# Altium schematic symbol library vestibular_vampire.SchLib: 129 symbols (part 3 of 5)
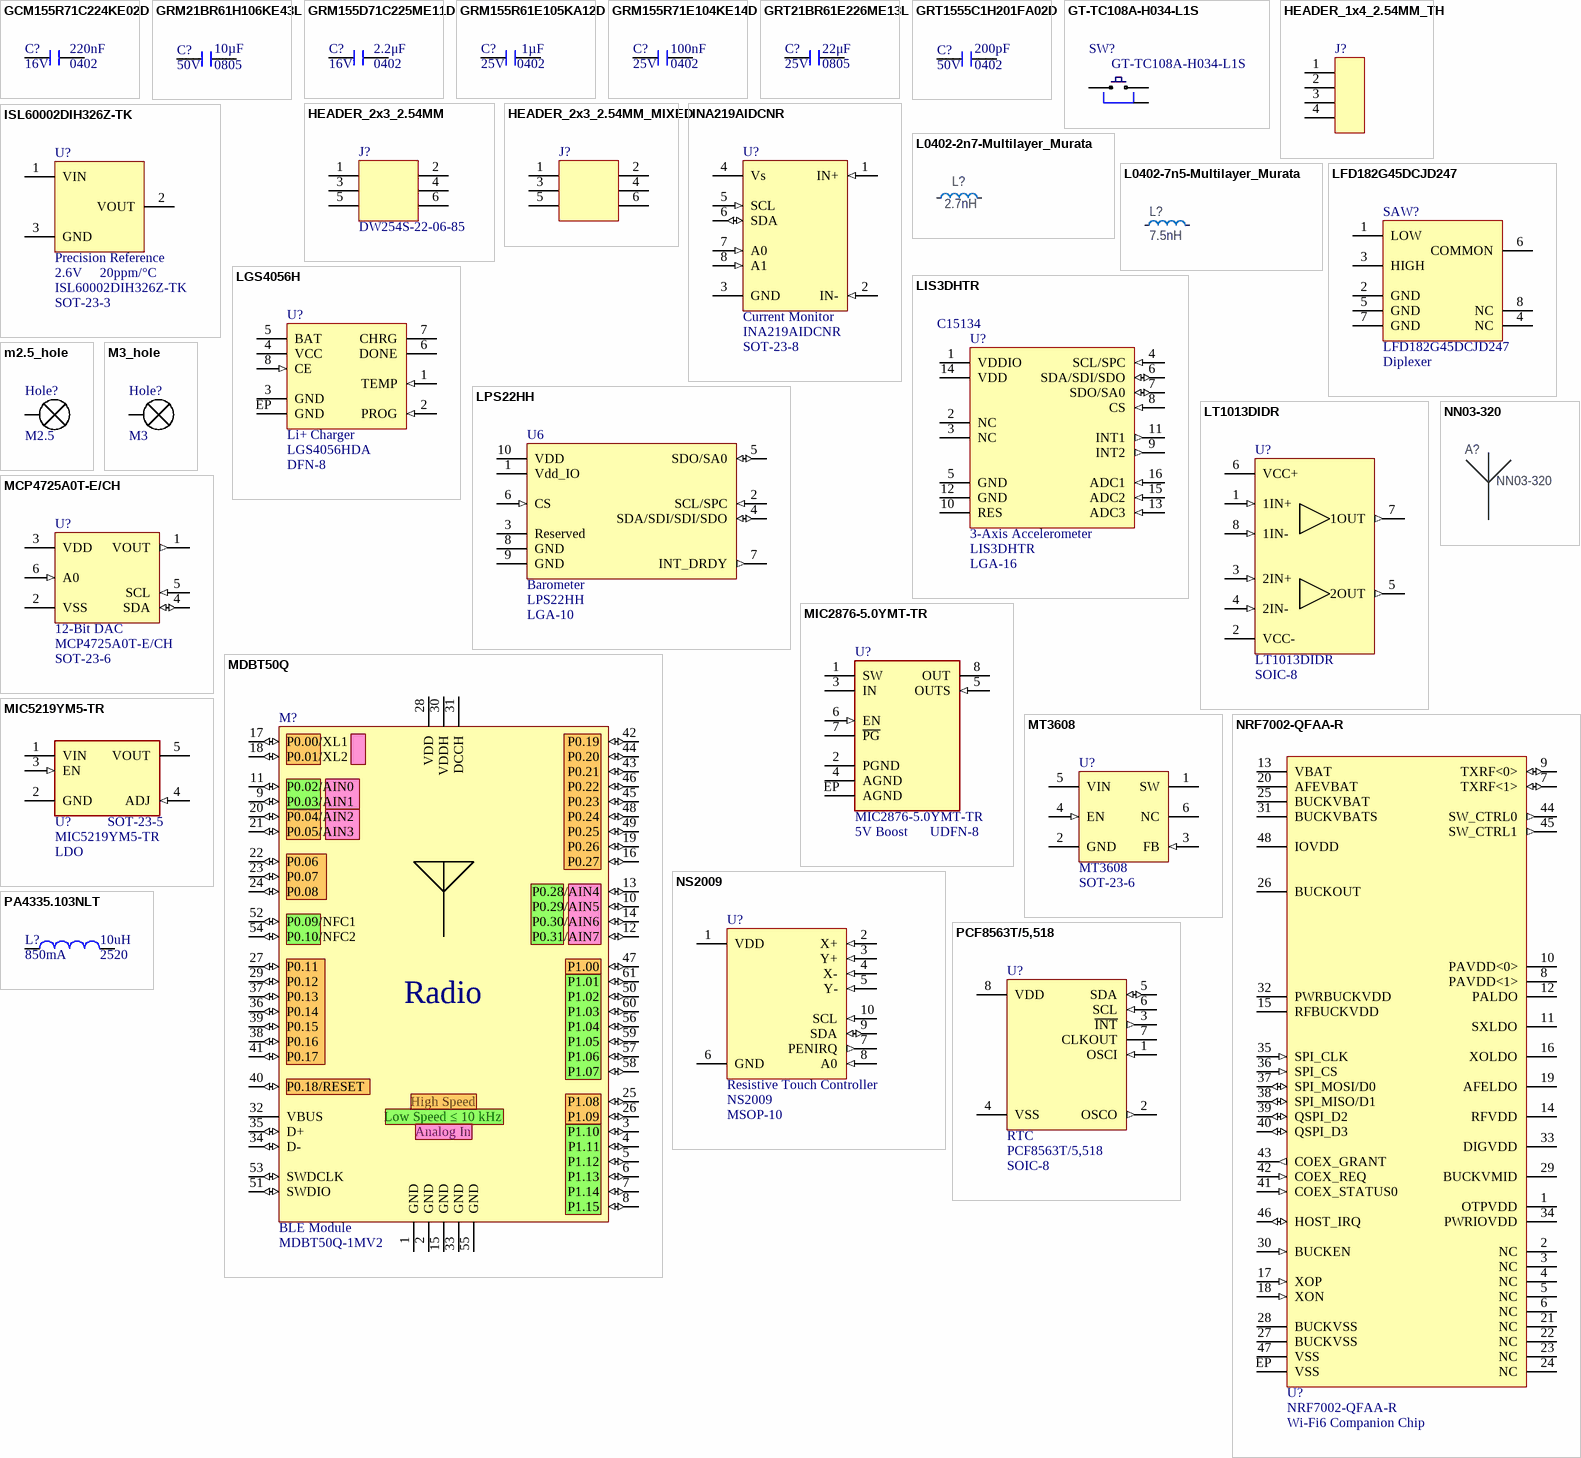
[diagram p5: symbols GCM155R71C224KE02D to PCF8563T/5,518]

## LT1013DIDR
designator U?  Manufacturer Part Number: LT1013DIDR  Case/Package: SOIC-8  (hidden comment: *)
Op-Amp, 5-44 V, SOIC-8; Manufacturer: Texas Instruments; Manufacturer Lifecycle Status: ACTIVE; Bandwidth: 1MHz; Common Mode Rejection Ratio: 97dB; Input Bias Current: -15nA; Input Offset Voltage (Vos): 200µV; Max Dual Supply Voltage: 22V; Max Junction Temperature (Tj): 150°C; Max Supply Voltage: 30V; Min Dual Supply Voltage: 2V; Min Supply Voltage: 5V; Nominal Supply Current: 350µA; Number of Amplifiers: 2; Output Current per Channel: 25mA; Slew Rate: 0.4V/µs; Voltage Gain: 120dB; Supplier 1: LCSC; RoHS: Compliant; Category: Amplifiers - Op Amps, Buffer, Instrumentation; Stock 1: 2755; Pricing 1: 1=10.5871, 1=1.2745, 1=11.5575, 1=1.4483, 10=8.8042, 10=1.0599, 10=9.6112, 10=1.2044, 30=7.8217, 30=0.9416, 30=8.5386, 30=1.07, 100=6.7048, 100=0.8072, 100=7.3193, 100=0.9172, 500=6.2077, 500=0.7473, 500=6.7767, 500=0.8492, 1000=5.9935, 1000=0.7216, 1000=6.5428, 1000=0.8199 (CNY); Ambient Temperature Range High: 105°C; Contact Plating: Gold; Gain Bandwidth Product: 1MHz; Height: 1.75mm; Lead Free: Lead Free; Length: 4.9mm; Lifecycle Status: Production; Max Operating Temperature: 105°C; Min Operating Temperature: -40°C; Mounting Technology: Surface Mount; Number of Channels: 2; Number of Circuits: 2; Number of Elements: 2; Pins: 8; Operating Supply Current: 350µA; Operating Supply Voltage: 22V; Packaging: Cut Tape; Radiation Hardening: No; REACH SVHC: No; Schedule B: 8542330000, 8542330000|8542330000|8542330000|8542330000|8542330000; Thickness: 1.58mm; Width: 3.91mm; ComponentLink1URL: https://octopart.com:443/opatz8j6/c1?t=M0cShFGUicegvLtuJ8-zs80pXCwKzPiMDfXh6-JTafKhOGkvmMbrbDOg59FWK180Hgcjh15YrgijTlzM1MQuPq40am12GMlhmTgFy1qRP_KCXoXJDs106NH1KBLm8tXuipKWnQXtF43MTIKlBHKkohhW4hOkcw2aK72GO3jP4nGAq-PKP9ZyrZWAbdm3b52rhLG0hkAVfGKswW3joJ7vh5DhYPJWbTvPhAbR8fO8VPXhxLQM_jY_VT1wzAmnyheMOpOCMWHZ9EDcKaKFaiylEQig-uIOmFPvjOgFNBLduZO8eK__Uds4HhdSl55DCMz9u54MsLGNxZV-EWbAqBfnwHirGA5M-fHWLMAxe_jbIe9TaaBizE_qMUTQwbY40qDj2r7m&src-supplier=Texas+Instruments; ComponentLink1Description: https://octopart.com:443/opatz8j6/c1?t=M0cShFGUicegvLtuJ8-zs80pXCwKzPiMDfXh6-JTafKhOGkvmMbrbDOg59FWK180Hgcjh15YrgijTlzM1MQuPq40am12GMlhmTgFy1qRP_KCXoXJDs106NH1KBLm8tXuipKWnQXtF43MTIKlBHKkohhW4hOkcw2aK72GO3jP4nGAq-PKP9ZyrZWAbdm3b52rhLG0hkAVfGKswW3joJ7vh5DhYPJWbTvPhAbR8fO8VPXhxLQM_jY_VT1wzAmnyheMOpOCMWHZ9EDcKaKFaiylEQig-uIOmFPvjOgFNBLduZO8eK__Uds4HhdSl55DCMz9u54MsLGNxZV-EWbAqBfnwHirGA5M-fHWLMAxe_jbIe9TaaBizE_qMUTQwbY40qDj2r7m&src-supplier=Texas+Instruments; ComponentLink2URL: https://datasheet.octopart.com:443/LT1013DIDR-Texas-Instruments-datasheet-41214033.pdf?src-supplier=Texas+Instruments; ComponentLink2Description: https://datasheet.octopart.com:443/LT1013DIDR-Texas-Instruments-datasheet-41214033.pdf?src-supplier=Texas+Instruments; ComponentLink3URL: https://datasheet.octopart.com:443/LT1013DIDR-Texas-Instruments-datasheet-10254874.pdf?src-supplier=Texas+Instruments; ComponentLink3Description: https://datasheet.octopart.com:443/LT1013DIDR-Texas-Instruments-datasheet-10254874.pdf?src-supplier=Texas+Instruments; ComponentLink4URL: https://sigma.octopart.com:443/49249642/technical_drawing/Texas-Instruments-LT1013DIDR.pdf?src-supplier=Texas+Instruments; ComponentLink4Description: https://sigma.octopart.com:443/49249642/technical_drawing/Texas-Instruments-LT1013DIDR.pdf?src-supplier=Texas+Instruments; ComponentLink5URL: https://datasheet.octopart.com:443/LT1013DIDR-Texas-Instruments-datasheet-10254053.pdf?src-supplier=Texas+Instruments; ComponentLink5Description: https://datasheet.octopart.com:443/LT1013DIDR-Texas-Instruments-datasheet-10254053.pdf?src-supplier=Texas+Instruments; ComponentLink6URL: https://datasheet.octopart.com:443/LT1013DIDR-Texas-Instruments-datasheet-148846.pdf?src-supplier=Texas+Instruments; ComponentLink6Description: https://datasheet.octopart.com:443/LT1013DIDR-Texas-Instruments-datasheet-148846.pdf?src-supplier=Texas+Instruments; ComponentLink7URL: https://datasheet.octopart.com:443/LT1013DIDR-Texas-Instruments-datasheet-151281.pdf?src-supplier=Texas+Instruments; ComponentLink7Description: https://datasheet.octopart.com:443/LT1013DIDR-Texas-Instruments-datasheet-151281.pdf?src-supplier=Texas+Instruments; ComponentLink8URL: https://datasheet.octopart.com:443/LT1013DIDR-Texas-Instruments-datasheet-148794836.pdf?src-supplier=Upverter; ComponentLink8Description: https://datasheet.octopart.com:443/LT1013DIDR-Texas-Instruments-datasheet-148794836.pdf?src-supplier=Upverter; ComponentLink9URL: https://datasheet.octopart.com:443/LT1013DIDR-Texas-Instruments-datasheet-82285550.pdf?src-supplier=element14+APAC; ComponentLink9Description: https://datasheet.octopart.com:443/LT1013DIDR-Texas-Instruments-datasheet-82285550.pdf?src-supplier=element14+APAC; ComponentLink10URL: https://datasheet.octopart.com:443/LT1013DIDR.-Texas-Instruments-datasheet-33010526.pdf?src-supplier=element14+APAC; ComponentLink10Description: https://datasheet.octopart.com:443/LT1013DIDR.-Texas-Instruments-datasheet-33010526.pdf?src-supplier=element14+APAC; ComponentLink11URL: https://datasheet.octopart.com:443/LT1013DIDR-Texas-Instruments-datasheet-20866108.pdf?src-supplier=Newark; ComponentLink11Description: https://datasheet.octopart.com:443/LT1013DIDR-Texas-Instruments-datasheet-20866108.pdf?src-supplier=Newark; ComponentLink12URL: https://datasheet.octopart.com:443/LT1013DIDR-Texas-Instruments-datasheet-11521414.pdf?src-supplier=Newark; ComponentLink12Description: https://datasheet.octopart.com:443/LT1013DIDR-Texas-Instruments-datasheet-11521414.pdf?src-supplier=Newark; ComponentLink13URL: https://datasheet.octopart.com:443/LT1013DIDR-Texas-Instruments-datasheet-14138854.pdf?src-supplier=iiiC; ComponentLink13Description: https://datasheet.octopart.com:443/LT1013DIDR-Texas-Instruments-datasheet-14138854.pdf?src-supplier=iiiC; ComponentLink14URL: https://datasheet.octopart.com:443/LT1013DIDR-Texas-Instruments-datasheet-14436488.pdf?src-supplier=Factory+Futures; ComponentLink14Description: https://datasheet.octopart.com:443/LT1013DIDR-Texas-Instruments-datasheet-14436488.pdf?src-supplier=Factory+Futures; ComponentLink15URL: https://datasheet.octopart.com:443/LT1013DIDR-Texas-Instruments-datasheet-8205012.pdf?src-supplier=Jameco; ComponentLink15Description: https://datasheet.octopart.com:443/LT1013DIDR-Texas-Instruments-datasheet-8205012.pdf?src-supplier=Jameco; ComponentLink16URL: https://datasheet.octopart.com:443/LT1013DIDR-Texas-Instruments-datasheet-9056.pdf?src-supplier=DigiKey; ComponentLink16Description: https://datasheet.octopart.com:443/LT1013DIDR-Texas-Instruments-datasheet-9056.pdf?src-supplier=DigiKey; ComponentLink17URL: http://sigma.octopart.com:80/conflict_mineral_statement/Texas-Instruments-company-63.pdf?src-supplier=Compliance+Statements; ComponentLink17Description: http://sigma.octopart.com:80/conflict_mineral_statement/Texas-Instruments-company-63.pdf?src-supplier=Compliance+Statements; ComponentLink18URL: http://sigma.octopart.com:80/reach_statement/Texas-Instruments-company-64.pdf?src-supplier=Compliance+Statements; ComponentLink18Description: http://sigma.octopart.com:80/reach_statement/Texas-Instruments-company-64.pdf?src-supplier=Compliance+Statements; Supplier Part Number 1: C177140
footprint SOIC127P600X175-8N
pins: 1 1IN+ (in), 2 VCC- (power), 3 2IN+ (in), 4 2IN- (in), 5 2OUT (out), 6 VCC+ (power), 7 1OUT (out), 8 1IN- (in)

## m2.5_hole
designator Hole?, comment M2.5  (no BOM)
M2.5 clearance hole
footprint m2.5_hole (M2.5 hole, with via stitching)
pins: 1

## M3_hole
designator Hole?, comment M3  (no BOM)
M3 clearance hole
footprint m3_hole (M3 hole, with via stitching)
pins: 1

## MCP4725A0T-E/CH
designator U?, comment 12-Bit DAC  Case/Package: SOT-23-6  Manufacturer Part Number: MCP4725A0T-E/CH
DAC, 12-bit, SOT-23-6; Manufacturer: Microchip; Manufacturer Package Identifier: C04-028-CHY; Description: DAC 1-CH Resistor-String 12-bit 6-Pin SOT-23 T/R Automotive AEC-Q100; Input Offset Voltage (Vos): 1.1mV; Integral Nonlinearity (INL): 14.5LSB; Interface: I2C; Max Junction Temperature (Tj): 150°C; Max Supply Voltage: 5.5V; Min Supply Voltage: 2.7V; Nominal Supply Current: 210µA; Number of Bits: 12; Number of Channels: 1; Output Type: Voltage; Polarity: Unipolar; Resolution: 1.5B; Settling Time: 6µs; Supply Type: Single; Supplier 1: LCSC; RoHS: Compliant; Category: Digital to Analog Converters (DACs); Stock 1: 11398; Pricing 1: 1=6.7252, 1=0.8004, 1=7.3416, 1=0.92, 10=5.9073, 10=0.7031, 10=6.4487, 10=0.8081, 30=5.1339, 30=0.611, 30=5.6044, 30=0.7023, 100=4.5622, 100=0.543, 100=4.9804, 100=0.6241, 500=4.3268, 500=0.515, 500=4.7234, 500=0.5919, 1000=4.2033, 1000=0.5003, 1000=4.5885, 1000=0.575 (CNY); Projected EOL Date: 2034-10-26; Ambient Temperature Range High: 125°C; Contact Plating: Tin; Country of Assembly: Thailand; Country of Fabrication: United States of America; Country of Origin: Thailand; Export Control Classification Number (ECCN) Code: EAR99; Height: 1.45mm; Harmonized Tariff Schedule (HTS) Code: 8542.39.0040; Introduction Date: 2007-10-26; Lead Free: Lead Free; Length: 3.1mm; Lifecycle Status: Production; Max Operating Temperature: 125°C; Min Operating Temperature: -40°C; Mounting Technology: Surface Mount; Number of Converters: 1; Number of D/A Converters: 1; Number of DAC Channels: 1; Number of Outputs: 1; Pins: 6; Packaging: Cut Tape; Radiation Hardening: No; REACH SVHC: No; Schedule B: 8542390000, 8542390000|8542390000|8542390000|8542390000|8542390000; Termination: SMD/SMT; Width: 1.8mm; ComponentLink1URL: https://datasheet.octopart.com:443/MCP4725A0T-E/CH-Microchip-datasheet-11052695.pdf?src-supplier=SHENGYU+ELECTRONICS; ComponentLink1Description: https://datasheet.octopart.com:443/MCP4725A0T-E/CH-Microchip-datasheet-11052695.pdf?src-supplier=SHENGYU+ELECTRONICS; ComponentLink2URL: https://datasheet.octopart.com:443/MCP4725A0T-E/CH-Microchip-datasheet-660622.pdf?src-supplier=Electro+Sonic; ComponentLink2Description: https://datasheet.octopart.com:443/MCP4725A0T-E/CH-Microchip-datasheet-660622.pdf?src-supplier=Electro+Sonic; ComponentLink3URL: https://datasheet.octopart.com:443/MCP4725A0T-E-CH-Microchip-datasheet-175858725.pdf?src-supplier=Microchip; ComponentLink3Description: https://datasheet.octopart.com:443/MCP4725A0T-E-CH-Microchip-datasheet-175858725.pdf?src-supplier=Microchip; ComponentLink4URL: https://datasheet.octopart.com:443/MCP4725A0T-E-CH-Microchip-datasheet-140568178.pdf?src-supplier=Arrow.cn; ComponentLink4Description: https://datasheet.octopart.com:443/MCP4725A0T-E-CH-Microchip-datasheet-140568178.pdf?src-supplier=Arrow.cn; ComponentLink5URL: https://datasheet.octopart.com:443/MCP4725A0T-E-CH-Microchip-datasheet-166018867.pdf?src-supplier=Augswan; ComponentLink5Description: https://datasheet.octopart.com:443/MCP4725A0T-E-CH-Microchip-datasheet-166018867.pdf?src-supplier=Augswan; ComponentLink6URL: http://sigma.octopart.com:80/188449425/materials_sheet/Microchip-MCP4725A0T-E-CH.pdf?src-supplier=Compliance+Statements; ComponentLink6Description: http://sigma.octopart.com:80/188449425/materials_sheet/Microchip-MCP4725A0T-E-CH.pdf?src-supplier=Compliance+Statements; ComponentLink7URL: http://sigma.octopart.com:80/conflict_mineral_statement/Microchip-company-68.pdf?src-supplier=Compliance+Statements; ComponentLink7Description: http://sigma.octopart.com:80/conflict_mineral_statement/Microchip-company-68.pdf?src-supplier=Compliance+Statements; ComponentLink8URL: http://sigma.octopart.com:80/conflict_mineral_statement/Microchip-company-69.pdf?src-supplier=Compliance+Statements; ComponentLink8Description: http://sigma.octopart.com:80/conflict_mineral_statement/Microchip-company-69.pdf?src-supplier=Compliance+Statements; ComponentLink9URL: http://sigma.octopart.com:80/reach_statement/Microchip-company-70.pdf?src-supplier=Compliance+Statements; ComponentLink9Description: http://sigma.octopart.com:80/reach_statement/Microchip-company-70.pdf?src-supplier=Compliance+Statements; ComponentLink10URL: http://sigma.octopart.com:80/rohs_statement/Microchip-company-71.pdf?src-supplier=Compliance+Statements; ComponentLink10Description: http://sigma.octopart.com:80/rohs_statement/Microchip-company-71.pdf?src-supplier=Compliance+Statements; Supplier Part Number 1: C144198
footprint SOT95P280X110-6N (SOT23, 6-Leads, Body 2,90x2,80mm, Pitch 0,95mm, IPC Medium Density)
pins: 1 VOUT (out) "Analog Output Voltage", 2 VSS (power) "Ground Reference", 3 VDD (power) "Supply Voltage", 4 SDA (io) "I2C Serial Data", 5 SCL (in) "I2C Serial Clock Input", 6 A0 (in) "I2C Address Bit Selection pin (A0 bit). This pin can be tied to VSS or VDD, or can be actively driven by the digital logic levels."

## MDBT50Q
designator M?, comment BLE Module  Manufacturer Part Number: MDBT50Q-1MV2
Supplier 1: Digi-Key; Supplier Part Number 1: 1597-1678-ND; ComponentLink1Description: Manufacturer Website; ComponentLink1URL: https://www.raytac.com/product/ins.php?index_id=24; house_part_number: MDBT50Q-1MV2
footprint MDBT50Q
pins: 1 GND (power), 2 GND (power), 3 P1.10 (io), 4 P1.11 (io), 5 P1.12 (io), 6 P1.13 (io), 7 P1.14 (io), 8 P1.15 (io), 9 P0.03/AIN1 (io), 10 P0.29/AIN5 (io), 11 P0.02/AIN0 (io), 12 P0.31/AIN7 (io), 13 P0.28/AIN4 (io), 14 P0.30/AIN6 (io), 15 GND (power), 16 P0.27 (io), 17 P0.00/XL1 (io), 18 P0.01/XL2 (io), 19 P0.26 (io), 20 P0.04/AIN2 (io), 21 P0.05/AIN3 (io), 22 P0.06 (io), 23 P0.07 (io), 24 P0.08 (io), 25 P1.08 (io), 26 P1.09 (io), 27 P0.11 (io), 28 VDD (power), 29 P0.12 (io), 30 VDDH (power), 31 DCCH (power), 32 VBUS (power), 33 GND (power), 34 D- (io), 35 D+ (io), 36 P0.14 (io), 37 P0.13 (io), 38 P0.16 (io), 39 P0.15 (io), 40 P0.18/RESET (io), 41 P0.17 (io), 42 P0.19 (io), 43 P0.21 (io), 44 P0.20 (io), 45 P0.23 (io), 46 P0.22 (io), 47 P1.00 (io), 48 P0.24 (io), 49 P0.25 (io), 50 P1.02 (io), 51 SWDIO (io), 52 P0.09/NFC1 (io), 53 SWDCLK (io), 54 P0.10/NFC2 (io), 55 GND (power), 56 P1.04 (io), 57 P1.06 (io), 58 P1.07 (io), 59 P1.05 (io), 60 P1.03 (io), 61 P1.01 (io)
text: Radio; High Speed; Low Speed ≤ 10 kHz; Analog In

## MIC2876-5.0YMT-TR
designator U?, comment 5V Boost  Case/Package: UDFN-8  Manufacturer Part Number: MIC2876-5.0YMT-TR
5V Synchronous Boost, UDFN-8; Manufacturer: Microchip; Number of Outputs: 1; Min Input Voltage: 2.5V; Max Supply Voltage: 5.5V; Output Current: 3.8A; Switching Frequency: 2MHz; Synchronous Rectifier: No; Output Type: Fixed; Output Configuration: Positive; Supplier: Digikey; Supplier Part Number: 150-MIC2876-5.0YMT-TRCT-ND; RoHS: Yes; Category: Voltage Regulators - Switching; Stock: 6514; Pricing: 1=0.97, 25=0.8, 100=0.73, 5000=0.73 (USD); Mounting Technology: Surface Mount; Min Operating Temperature: -40°C; Max Operating Temperature: 125°C; Packaging: Tape and Reel; Min Output Voltage: 5V; Topology: Boost; Series: -; RoHS Compliant: Yes; ComponentLink1URL: http://www.microchip.com/mymicrochip/filehandler.aspx?ddocname=en580787&src-supplier=Digikey; ComponentLink1Description: http://www.microchip.com/mymicrochip/filehandler.aspx?ddocname=en580787&src-supplier=Digikey; ComponentLink2URL: https://datasheet.octopart.com/MIC2876-5.0YMT-TR-Microchip-datasheet-175858781.pdf?src-supplier=Electro+Sonic; ComponentLink2Description: https://datasheet.octopart.com/MIC2876-5.0YMT-TR-Microchip-datasheet-175858781.pdf?src-supplier=Electro+Sonic; ComponentLink3URL: https://datasheet.octopart.com/MIC2876-5.0YMT-TR-Microchip-datasheet-175858781.pdf?src-supplier=microchipDIRECT; ComponentLink3Description: https://datasheet.octopart.com/MIC2876-5.0YMT-TR-Microchip-datasheet-175858781.pdf?src-supplier=microchipDIRECT; ComponentLink4URL: https://datasheet.octopart.com/MIC2876-5.0YMT-TR-Microchip-datasheet-175858781.pdf?src-supplier=Master+Electronics; ComponentLink4Description: https://datasheet.octopart.com/MIC2876-5.0YMT-TR-Microchip-datasheet-175858781.pdf?src-supplier=Master+Electronics; ComponentLink5URL: https://datasheet.octopart.com/MIC2876-5.0YMT-TR-Microchip-datasheet-86810323.pdf?src-supplier=SHENGYU+ELECTRONICS; ComponentLink5Description: https://datasheet.octopart.com/MIC2876-5.0YMT-TR-Microchip-datasheet-86810323.pdf?src-supplier=SHENGYU+ELECTRONICS; ComponentLink6URL: https://datasheet.octopart.com/MIC2876-5.0YMT-TR-Microchip-datasheet-142675560.pdf?src-supplier=TME; ComponentLink6Description: https://datasheet.octopart.com/MIC2876-5.0YMT-TR-Microchip-datasheet-142675560.pdf?src-supplier=TME
footprint SON50P200X50_HS-9N (SON, 8-Leads, Body 2.00x2.00mm, Pitch 0.50mm, Thermal Pad 1.20x0.60mm, IPC Medium Density)
pins: 1 SW (power) "Supply Input", 2 PGND (power) "Ground", 3 IN (power) "Supply Input", 4 AGND (power) "Ground", 5 OUTS (in) "Adjust (Input): Feedback input. Connect to resistive voltage-divider network.", 6 EN (in) "Enable (Input): CMOS compatible control input. Logic high = enable; logic", 7 ~{PG} (oc) "Enable (Input): CMOS compatible control input. Logic high = enable; logic", 8 OUT (power) "Regulator Output.", EP AGND (power) "Ground"

## MIC5219YM5-TR
designator U?, comment LDO  Case/Package: SOT-23-5  Manufacturer Part Number: MIC5219YM5-TR
500mA Peak Output Adjustable Vout LDO; Manufacturer: Microchip; Dropout Voltage: 350mV; Max Supply Voltage: 12V; Min Input Voltage: 2.5V; Number of Outputs: 1; Polarity: Positive; Output Voltage Accuracy: 1%; Quiescent Current: 8uA; Power Supply Rejection Ratio (PSRR): 75dB; Supplier: Digikey; Supplier Part Number 1: 576-1282-1-ND; RoHS: Yes; Category: Voltage Regulators - Linear; Stock: 23891; Pricing: 1=1.81, 25=1.5, 100=1.36 (USD); Mounting Technology: Surface Mount; Pins: 5; Min Operating Temperature: -40°C; Max Operating Temperature: 125°C; Packaging: Tape and Reel; Max Output current: 500mA; Output Current: 500mA; Number of Regulators: 1; Output Type: Adjustable; Series: -; Output Configuration: Positive; Reach SVHC Compliant: No; Lead Free: Lead Free; RoHS Compliant: Yes; ComponentLink1URL: https://datasheet.ciiva.com/2050/mic5219-2050896.pdf?src-supplier=Digikey; ComponentLink1Description: https://datasheet.ciiva.com/2050/mic5219-2050896.pdf?src-supplier=Digikey; ComponentLink2URL: https://datasheet.ciiva.com/2050/mic5219-2050897.pdf?src-supplier=Digikey; ComponentLink2Description: https://datasheet.ciiva.com/2050/mic5219-2050897.pdf?src-supplier=Digikey; ComponentLink3URL: https://datasheet.ciiva.com/2050/mic5219-2050898.pdf?src-supplier=Digikey; ComponentLink3Description: https://datasheet.ciiva.com/2050/mic5219-2050898.pdf?src-supplier=Digikey; ComponentLink4URL: https://datasheet.ciiva.com/46419/683599-46419083.pdf?src-supplier=Element14; ComponentLink4Description: https://datasheet.ciiva.com/46419/683599-46419083.pdf?src-supplier=Element14
footprint SOT95P280X115-5N (SOT23, 5-Leads, Body 2.92x2.80mm, Pitch 0.95mm, IPC Medium Density)
pins: 1 VIN (power) "Supply Input", 2 GND (power) "Ground", 3 EN (in) "Enable (Input): CMOS compatible control input. Logic high = enable; logic", 4 ADJ (in) "Adjust (Input): Feedback input. Connect to resistive voltage-divider network.", 5 VOUT (power) "Regulator Output."

## MT3608
designator U?  Manufacturer Part Number: MT3608  Package: SOT-23-6  (hidden comment: *)
Boost converter, 2A, SOT-23-6; Supplier Part Number: C84817
footprint SOT95P280X110-6N (SOT23, 6-Leads, Body 2,90x2,80mm, Pitch 0,95mm, IPC Medium Density)
pins: 1 SW (power) "Power Switch Output. SW is the drain of the internal MOSFET switch. Connect the power inductor and output rectifier to SW. SW can swing between GND and 28V.", 2 GND (power) "Ground Pin", 3 FB (in) "Feedback Input. The FB voltage is 0.6V. Connect a resistor divider to FB.", 4 EN (in) "Regulator On/Off Control Input. A high input at EN turns on the converter, and a low input turns it off. When not used, connect EN to the input supply for automatic startup.", 5 VIN (power) "Input Supply Pin. Must be locally bypassed.", 6 NC "No Connect"

## NN03-320
designator A?
Dual-Band GNSS and Wi-Fi/BluetoothAntenna; Manufacturer: Ignion; Part number NEMS: 100700066; Component Status: Active; Pad Count: 4; Note: N.A.; Part Number: NN03-320; Component Class: Antennas; Author: rubr; Manufacturer Part Number: NN03-320; ComponentLink1URL: https://ignion.io/files/DS_NN03-320.pdf; ComponentLink1Description: Datasheet; ComponentLink2URL: https://ignion.io/product/duo-mxtend/; ComponentLink2Description: Supplier link; HelpURL: https://ignion.io/files/UM_NN03-320.pdf; LatestRevisionDate: 2021-12-10; Published: 2023-01-31; Footprint Doc: NN03-320; Value: NN03-320; Supplier 1: Digi-Key; Supplier Part Number 1: 2115-NN03-320CT-ND; Supplier 2: Mouser; Supplier Part Number 2: 128-NN03-320; Artikkelnr Noca: N.A.; Part number IPS: N.A.; Part number Norautron: N.A.; PartId: 100700066
footprint NN03-320
pins: 1 NC hidden, 2 GND hidden, 3 Feed2 hidden, 4 Feed1
3 alternate drawings of the same symbol

## NRF7002-QFAA-R
designator U?, comment Wi-Fi6 Companion Chip  Manufacturer Part Number: NRF7002-QFAA-R
Wi-Fi 6 Module IEEE 802.11a/b/g/n/ac/ax DSSS/CCK/HT 2.4GHz/5GHz 86Mbps 48-Pin QFN EP T/R; Manufacturer: Nordic Semiconductor; Supplier: Newark; Supplier Part Number: 70AK6756; RoHS: No; Stock: 8361; Pricing: 1=5.13, 10=4.94, 25=4.75, 50=4.56, 100=4.37, 250=4.09, 500=3.8, 1000=3.47 (USD)
footprint QFN40P600X600X60-48N (QFN, 48-Leads, Body 6.1x6.1mm (max), Pitch 0.40mm, IPC Medium Density)
pins: 1 OTPVDD (power), 2 NC "Do not connect", 3 NC "Do not connect", 4 NC "Do not connect", 5 NC "Do not connect", 6 NC "Do not connect", 7 TXRF<1> (io) "5 GHz", 8 PAVDD<1> (power), 9 TXRF<0> (io) "2.4 GHz", 10 PAVDD<0> (power), 11 SXLDO (power), 12 PALDO (power), 13 VBAT (power), 14 RFVDD (power), 15 RFBUCKVDD (power), 16 XOLDO (power), 17 XOP (in) "40 MHz crystal (or TCXO output if using an external TCXO)", 18 XON (in) "40 MHz crystal (or N.C. if using an external TCXO)", 19 AFELDO (power), 20 AFEVBAT (power), 21 NC "Do not connect", 22 NC "Do not connect", 23 NC "Do not connect", 24 NC "Do not connect", 25 BUCKVBAT (power), 26 BUCKOUT (power) "DCDC output", 27 BUCKVSS (power) "DCDC GND", 28 BUCKVSS (power) "DCDC GND", 29 BUCKVMID (power) "Voltage reference decoupling pin", 30 BUCKEN (in) "PWR IP enable pin", 31 BUCKVBATS (power), 32 PWRBUCKVDD (power), 33 DIGVDD (power), 34 PWRIOVDD (power), 35 SPI_CLK (in) "SPI Clock", 36 SPI_CS (in) "SPI Chip Select", 37 SPI_MOSI/D0 (io) "(Q)SPI data", 38 SPI_MISO/D1 (io) "(Q)SPI data", 39 QSPI_D2 (io) "QSPI data", 40 QSPI_D3 (io) "QSPI data", 41 COEX_STATUS0 (in) "Coex interface", 42 COEX_REQ (in) "Coex interface", 43 COEX_GRANT (out) "Coex interface", 44 SW_CTRL0 (out) "External switch control", 45 SW_CTRL1 (out) "External switch control", 46 HOST_IRQ (io) "Host processor interrupt request", 47 VSS (power) "Chip GND. Must be connected to global ground (VSS)", 48 IOVDD (power) "for proper device operation.", EP VSS (power) "Chip GND. Must be connected to global ground (VSS)"

## NS2009
designator U?, comment Resistive Touch Controller  Case/Package: MSOP-10  Manufacturer Part Number: NS2009
Manufacturer: NSIWAY; Supplier 1: LCSC; Supplier Part Number 1: C219024; house_part_number: NS2009
footprint TSSOP50P490X112-10N (TSSOP, 10-Leads, Body 3.00x3.00mm, Pitch 0.50mm, IPC Medium Density)
pins: 1 VDD (power) "Power Supply", 2 X+ (in) "Position Input", 3 Y+ (in) "Position Input", 4 X- (in) "Position Input", 5 Y- (in) "Position Input", 6 GND (power) "Ground", 7 PENIRQ (out) "Pen Interrupt", 8 A0 (in) "I2C Address Input", 9 SDA (io) "I2C Data", 10 SCL (in) "I2C Clock"

## PA4335.103NLT
designator L?  value 10uH  Current Rating: 850mA  Case/Package: 2520  (hidden comment: PA4335.103NLT)
Drum Core Shielded Power Inductor Wirewound Ferrite 10uH 20% 1MHz 0.85A SMD T/R; Manufacturer: Pulse; Saturation Current: 1.1A; DC Resistance (DCR): 480mR; Self Resonant Frequency: 14MHz; Supplier: Digikey; Supplier Part Number: 553-3314-1-ND; Manufacturer Part Number: PA4335.103NLT; RoHS: Yes; Category: Fixed Inductors; Stock: 13968; Pricing: 1=0.36, 10=0.309, 25=0.2832, 50=0.2572, 100=0.229, 250=0.21612, 500=0.18526, 1000=0.16467 (USD); Mounting Technology: Surface Mount; Core Material: Ferrite; Min Operating Temperature: -40°C; Max Operating Temperature: 125°C; Packaging: Cut Tape; Shielding: Shielded; Test Frequency: 1MHz; Tolerance: 20%; Series: PA4335; Length: 0.106inch; Width: 0.087inch; Height - Seated (Max): 0.047inch; RoHS Compliant: Yes; ComponentLink1URL: https://datasheet.octopart.com/PA4335.103NLT-Pulse-datasheet-151940520.pdf?src-supplier=Master+Electronics; ComponentLink1Description: https://datasheet.octopart.com/PA4335.103NLT-Pulse-datasheet-151940520.pdf?src-supplier=Master+Electronics; ComponentLink2URL: https://datasheet.octopart.com/PA4335.103NLT-Pulse-datasheet-137333241.pdf?src-supplier=Sager+Electronics; ComponentLink2Description: https://datasheet.octopart.com/PA4335.103NLT-Pulse-datasheet-137333241.pdf?src-supplier=Sager+Electronics
footprint INDC2520X12N (Chip Inductor, 2-Leads, Body 2.50x2.00mm, IPC Medium Density)
pins: 1, 2

## PCF8563T/5,518
designator U?, comment RTC  Case/Package: SOIC-8  Manufacturer Part Number: PCF8563T/5,518
Real-Time Clock, I2C, SOIC-8; Manufacturer: NXP Semiconductors; Max Supply Voltage: 5.5V; Min Supply Voltage: 1.8V; Time Format: HH:MM:SS; Supplier: Arrow Electronics; Supplier Part Number: PCF8563T/5,518; RoHS: Yes; Category: Real Time Clocks; Stock: 7500; Pricing: 2500=0.4908, 5000=0.4612, 12500=0.4404 (USD); Mounting Technology: Surface Mount; Pins: 8; Min Operating Temperature: -40°C; Max Operating Temperature: 85°C; Packaging: Tape and Reel; Interface: I2C; Logic Function: Clock; Nominal Supply Voltage: 5.5V; Package Quantity: 2500; Radiation Hardening: No; RoHS Compliant: Yes; Lead Free: Lead Free; Temperature Grade: INDUSTRIAL; ComponentLink1URL: https://datasheet.ciiva.com/1238/pcf8563-1238727.pdf?src-supplier=Digi-Key; ComponentLink1Description: https://datasheet.ciiva.com/1238/pcf8563-1238727.pdf?src-supplier=Digi-Key; ComponentLink2URL: https://datasheet.ciiva.com/1238/pcf8563-1238728.pdf?src-supplier=Digi-Key; ComponentLink2Description: https://datasheet.ciiva.com/1238/pcf8563-1238728.pdf?src-supplier=Digi-Key; ComponentLink3URL: https://datasheet.ciiva.com/1238/pcf8563-1238773.pdf?src-supplier=Digi-Key; ComponentLink3Description: https://datasheet.ciiva.com/1238/pcf8563-1238773.pdf?src-supplier=Digi-Key; ComponentLink4URL: https://datasheet.ciiva.com/8145/pcf8563-8145180.pdf?src-supplier=Avnet; ComponentLink4Description: https://datasheet.ciiva.com/8145/pcf8563-8145180.pdf?src-supplier=Avnet; ComponentLink5URL: https://datasheet.ciiva.com/16287/pcf8563-16287110.pdf?src-supplier=Future+Electronics; ComponentLink5Description: https://datasheet.ciiva.com/16287/pcf8563-16287110.pdf?src-supplier=Future+Electronics; Supplier 1: LCSC; Supplier Part Number 1: C7440; house_part_number: PCF8563T/5,518
footprint SOIC127P600X175-8N
pins: 1 OSCI (in) "Oscillator input", 2 OSCO (out) "Oscillator output", 3 ~{INT} (out) "Interrupt output (open-drain; active LOW)", 4 VSS (power) "Ground", 5 SDA (io) "Serial data input and output", 6 SCL (in) "Serial clock input", 7 CLKOUT (oc) "Clock output, open-drain", 8 VDD (power) "Supply voltage, 1.8V - 5.5V"

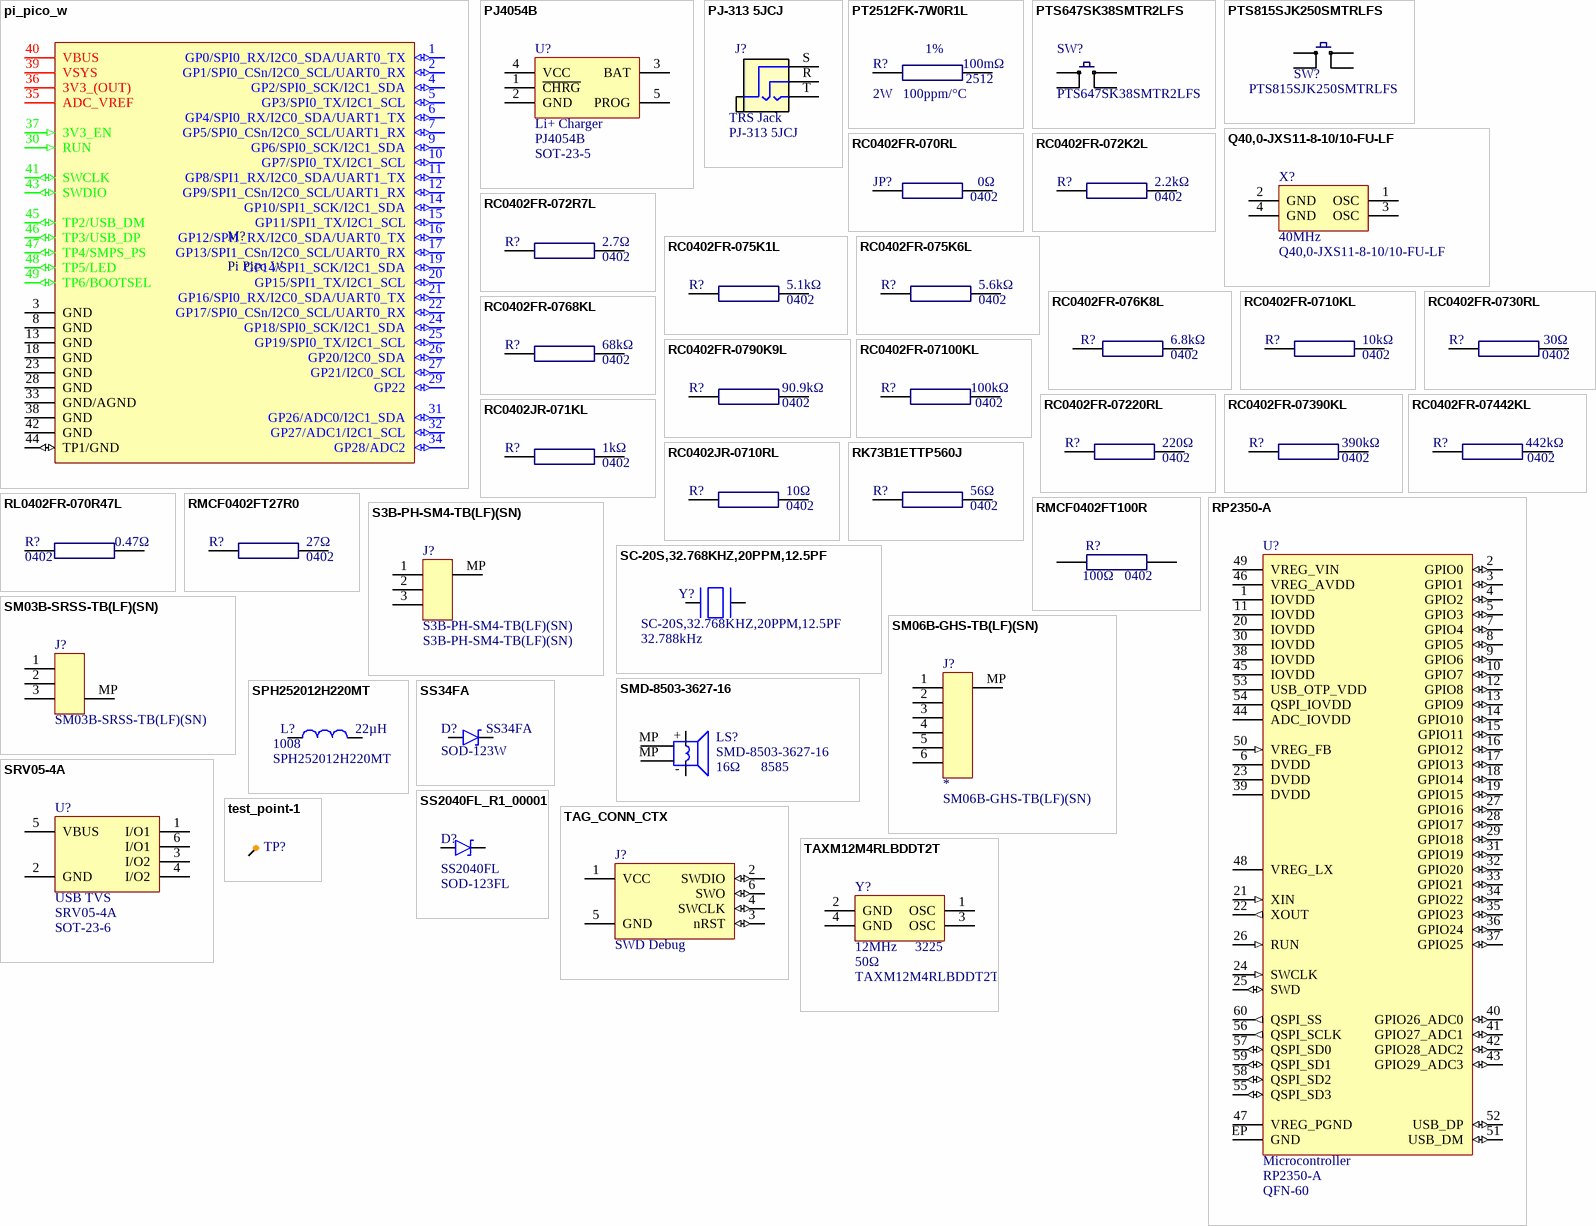
[diagram p2: symbols pi_pico_w to test_point-1]

## pi_pico_w
designator M?, comment Pi Pico W
Manufacturer: Raspberry Pi; Manufacturer Part Number: SC0918; Supplier 1: Digi-Key; Stock 1: 0; Supplier Part Number 1: 2648-SC0918CT-ND
footprint pi_pico_w (RASPBERRY PI PICO W RP2040 BOARD)
pins: 1 GP0/SPI0_RX/I2C0_SDA/UART0_TX (io), 2 GP1/SPI0_CSn/I2C0_SCL/UART0_RX (io), 3 GND (power), 4 GP2/SPI0_SCK/I2C1_SDA (io), 5 GP3/SPI0_TX/I2C1_SCL (io), 6 GP4/SPI0_RX/I2C0_SDA/UART1_TX (io), 7 GP5/SPI0_CSn/I2C0_SCL/UART1_RX (io), 8 GND (power), 9 GP6/SPI0_SCK/I2C1_SDA (io), 10 GP7/SPI0_TX/I2C1_SCL (io), 11 GP8/SPI1_RX/I2C0_SDA/UART1_TX (io), 12 GP9/SPI1_CSn/I2C0_SCL/UART1_RX (io), 13 GND (power), 14 GP10/SPI1_SCK/I2C1_SDA (io), 15 GP11/SPI1_TX/I2C1_SCL (io), 16 GP12/SPI1_RX/I2C0_SDA/UART0_TX (io), 17 GP13/SPI1_CSn/I2C0_SCL/UART0_RX (io), 18 GND (power), 19 GP14/SPI1_SCK/I2C1_SDA (io), 20 GP15/SPI1_TX/I2C1_SCL (io), 21 GP16/SPI0_RX/I2C0_SDA/UART0_TX (io), 22 GP17/SPI0_CSn/I2C0_SCL/UART0_RX (io), 23 GND (power), 24 GP18/SPI0_SCK/I2C1_SDA (io), 25 GP19/SPI0_TX/I2C1_SCL (io), 26 GP20/I2C0_SDA (io), 27 GP21/I2C0_SCL (io), 28 GND (power), 29 GP22 (io), 30 RUN (in), 31 GP26/ADC0/I2C1_SDA (io), 32 GP27/ADC1/I2C1_SCL (io), 33 GND/AGND (power), 34 GP28/ADC2 (io), 35 ADC_VREF (power), 36 3V3_(OUT) (power), 37 3V3_EN (in), 38 GND (power), 39 VSYS (power), 40 VBUS (power), 41 SWCLK (io), 42 GND (power), 43 SWDIO (io), 44 TP1/GND (io), 45 TP2/USB_DM (io), 46 TP3/USB_DP (io), 47 TP4/SMPS_PS (io), 48 TP5/LED (io), 49 TP6/BOOTSEL (io)

## PJ4054B
designator U?, comment Li+ Charger  Case/Package: SOT-23-5  Manufacturer Part Number: PJ4054B
SOT-23-5 Battery Management ICs ROHS; Manufacturer: PJSEMI; Supplier: LCSC; Supplier Part Number: C2911335; RoHS: No; Category: Uncategorized; Stock: 17540; Pricing: 10=0.0385, 100=0.0318, 300=0.0285, 3000=0.0228, 6000=0.0208, 9000=0.0198 (USD); Supplier 1: LCSC; Supplier Part Number 1: C2911335
footprint SOT95P280X115-5N (SOT23, 5-Leads, Body 2.92x2.80mm, Pitch 0.95mm, IPC Medium Density)
pins: 1 ~{CHRG} (oc) "Output of open drain charging state. The CHRG pin is pulled to low level by an internal N-channel MOSFET during battery charging.", 2 GND (power), 3 BAT (power) "Charging current output. The pin provides charging current to the battery and adjusts the final floating charging voltage to 4.2V. A precise internal resistance voltage divider of the pin sets the floating charging voltage. In the shutdown mode, the internal resistance voltage divider is disconnected.", 4 VCC (power) "Positive input power voltage. This pin supplies power to the charger.VCC shall vary from 4.25V to 6.5V and shall be bypassed by at least one 1uF capacitor. When the VCC drops to less than 30mV of BAT pin voltage,PJ4054B enters the stop mode, and the Ibat falls below 2uA.", 5 PROG (power) "Charging current setting, charging current monitoring and stop pin. The charging current can be set by connecting a 1% precision resistor Pprog between the pin and the ground. When charging in constant current mode, the voltage of this pin is maintained at 1V. In all modes, the voltage on this pin can be used to calculate the charging current. The formula is Ibat=(Vprog/Rprog)*1000. Short connect the set resistor to the ground, and an internal 2.5uA current pulls the PROG pin to a high level. When the voltage of this pin reaches the stop threshold voltage of 1.21V, the charger enters the stop mode, the charging stops and the input power current drops to 25uA. Reconnecting the Rprog to the ground will restore the charger to normal operation."

## PJ-313 5JCJ
designator J?, comment TRS Jack  Manufacturer Part Number: PJ-313 5JCJ
3.5mm TRS Jack; Manufacturer: SHOU HAN; Supplier 1: LCSC; Category: Uncategorized; Stock 1: 20215; Pricing 1: 5=0.5702, 5=0.068, 5=0.6225, 5=0.078, 50=0.4626, 50=0.0551, 50=0.505, 50=0.0633, 150=0.4022, 150=0.0479, 150=0.439, 150=0.0551, 1000=0.3661, 1000=0.0437, 1000=0.3996, 1000=0.0501, 5000=0.3181, 5000=0.038, 5000=0.3473, 5000=0.0436, 10000=0.3133, 10000=0.0374, 10000=0.342, 10000=0.0429 (CNY); Supplier Part Number 1: C668607
footprint pj-313_5jcj_3.5mm_trs_jack
pins: R, S, T

## PT2512FK-7W0R1L
designator R?  value 100mΩ  Case/Package: 2512  Tolerance: 1%  Temperature Coefficient: 100ppm/°C  Power Dissipation: 2W  (hidden comment: *)
100 mΩ, 1%, 100ppm/℃, 2W, 2512 Chip Resistor; Manufacturer: Yageo Group; Manufacturer Part Number: PT2512FK-7W0R1L; Working Voltage: 447mV; Supplier 1: DigiKey; RoHS: Compliant; Category: Chip SMD Resistors; Pricing 1: 1=0.71, 10=0.461, 25=0.3924, 50=0.3494, 100=0.313, 250=0.27296, 500=0.2479, 1000=0.22662 (USD); Composition: Thick Film; Features: Automotive AEC-Q200, Moisture Resistant; Height: 550µm; Length: 6.35mm; Lifecycle Status: Production; Max Operating Temperature: 155°C; Max Power Dissipation: 2W; Min Operating Temperature: -55°C; Mounting Technology: Surface Mount; Number of Terminals: 2; Number of Terminations: 2; REACH SVHC: Yes; Width: 3.2mm; ComponentLink1URL: https://datasheet.octopart.com:443/PT2512FK-7W0R1L-Yageo-datasheet-182189530.pdf?src-supplier=IHS; ComponentLink1Description: https://datasheet.octopart.com:443/PT2512FK-7W0R1L-Yageo-datasheet-182189530.pdf?src-supplier=IHS; ComponentLink2URL: https://datasheet.octopart.com:443/PT2512FK-7W0R1L-Yageo-datasheet-137700561.pdf?src-supplier=Farnell; ComponentLink2Description: https://datasheet.octopart.com:443/PT2512FK-7W0R1L-Yageo-datasheet-137700561.pdf?src-supplier=Farnell; ComponentLink3URL: https://datasheet.octopart.com/PT2512FK-7W0R1L-Yageo-datasheet-86814862.pdf; ComponentLink3Description: https://datasheet.octopart.com/PT2512FK-7W0R1L-Yageo-datasheet-86814862.pdf; ComponentLink4URL: http://sigma.octopart.com:80/rohs_statement/Yageo-company-2.pdf?src-supplier=Compliance+Statements; ComponentLink4Description: http://sigma.octopart.com:80/rohs_statement/Yageo-company-2.pdf?src-supplier=Compliance+Statements; ComponentLink5URL: http://sigma.octopart.com:80/conflict_mineral_statement/Yageo-company-3.pdf?src-supplier=Compliance+Statements; ComponentLink5Description: http://sigma.octopart.com:80/conflict_mineral_statement/Yageo-company-3.pdf?src-supplier=Compliance+Statements; Supplier Part Number 1: 13-PT2512FK-7W0R1LCT-ND
footprint 2512_resistor
pins: 1, 2

## PTS647SK38SMTR2LFS
designator SW?
Tactile switch, SPST; Manufacturer: ITT C&K; Mechanical Life: 100000Cycles; Illumination Type: Non-Illuminated; Switch Function: Off-Mom; Actuator Type: Standard; Operating Force: 250gf; Switch Travel: 0.25mm; Ratings: IP40; Supplier 1: Digi-Key; RoHS: No; Category: Tactile Switches; Stock 1: 68566; Pricing 1: 1=0.13000, 10=0.12700, 25=0.12080, 100=0.10970, 250=0.10308, 500=0.09432, 1000=0.07897 (USD); Mount: Surface Mount; Min Operating Temperature: -20°C; Max Operating Temperature: 70°C; Throw Configuration: SPST; Packaging: Tape and Reel; Termination: Gull Wing; ComponentLink1URL: https://www.ckswitches.com/media/2567/pts647.pdf?src-supplier=Digi-Key; ComponentLink1Description: https://www.ckswitches.com/media/2567/pts647.pdf?src-supplier=Digi-Key; Supplier Part Number 1: PTS647SK38SMTR2LFSCT-ND; Manufacturer Part Number: PTS647SK38SMTR2LFS
footprint PTS647SK38SMTR2LFS
pins: 1, 2, 3, 4

## PTS815SJK250SMTRLFS
designator SW?, comment Manufacturer Part Number: PTS815SJK250SMTRLFS  (hidden comment: Switch)
Surface Mount Tactile Switch, Momentary SPST-NO 50mA 12VDC, 250gf, 4.2x3.2mm; Manufacturer: ITT C&K; Mechanical Life: 50000Cycles; Throw Configuration: SPST; Illumination Type: Non-Illuminated; Switch Function: Off-Mom; Switch Travel: 0.2mm; Contact Resistance: 100mR; Number of Positions: 2NUMBER; Ratings: IP40; Supplier: Digikey; Supplier Part Number: CKN12216-1-ND; RoHS: Yes; Category: Tactile Switches; Stock: 20870; Pricing: 1=0.26, 10=0.209, 25=0.1928, 100=0.1701, 250=0.1564, 500=0.14674, 1000=0.13758 (USD); Mounting Technology: Surface Mount; Min Operating Temperature: -20°C; Max Operating Temperature: 70°C; Series: PTS815; Packaging: Cut Tape; Operating Force: 250gf; ComponentLink1URL: http://datasheet.octopart.com/PTS815SJK250SMTRLFS-C%26K-Components-datasheet-130077068.pdf?src-supplier=Digikey; ComponentLink1Description: http://datasheet.octopart.com/PTS815SJK250SMTRLFS-C%26K-Components-datasheet-130077068.pdf?src-supplier=Digikey; ComponentLink2URL: http://datasheet.octopart.com/PTS815SJK250SMTRLFS-C%26K-Components-datasheet-130077068.pdf?src-supplier=Newark; ComponentLink2Description: http://datasheet.octopart.com/PTS815SJK250SMTRLFS-C%26K-Components-datasheet-130077068.pdf?src-supplier=Newark; ComponentLink3URL: http://datasheet.octopart.com/PTS815SJK250SMTRLFS-C%26K-Components-datasheet-130077068.pdf?src-supplier=Mouser; ComponentLink3Description: http://datasheet.octopart.com/PTS815SJK250SMTRLFS-C%26K-Components-datasheet-130077068.pdf?src-supplier=Mouser; ComponentLink4URL: http://datasheet.octopart.com/PTS815SJK250SMTRLFS-C%26K-Components-datasheet-130077068.pdf?src-supplier=Verical; ComponentLink4Description: http://datasheet.octopart.com/PTS815SJK250SMTRLFS-C%26K-Components-datasheet-130077068.pdf?src-supplier=Verical; ComponentLink5URL: http://datasheet.octopart.com/PTS815SJK250SMTRLFS-C%26K-Components-datasheet-130077068.pdf?src-supplier=Future+Electronics; ComponentLink5Description: http://datasheet.octopart.com/PTS815SJK250SMTRLFS-C%26K-Components-datasheet-130077068.pdf?src-supplier=Future+Electronics; ComponentLink6URL: http://datasheet.octopart.com/PTS815SJK250SMTRLFS-C%26K-Components-datasheet-130077068.pdf?src-supplier=Onlinecomponents.com; ComponentLink6Description: http://datasheet.octopart.com/PTS815SJK250SMTRLFS-C%26K-Components-datasheet-130077068.pdf?src-supplier=Onlinecomponents.com; ComponentLink7URL: http://datasheet.octopart.com/PTS815SJK250SMTRLFS-C%26K-Components-datasheet-130077068.pdf?src-supplier=Avnet; ComponentLink7Description: http://datasheet.octopart.com/PTS815SJK250SMTRLFS-C%26K-Components-datasheet-130077068.pdf?src-supplier=Avnet; ComponentLink8URL: http://datasheet.octopart.com/PTS815SJK250SMTRLFS-C%26K-Components-datasheet-130077068.pdf?src-supplier=Allied+Electronics; ComponentLink8Description: http://datasheet.octopart.com/PTS815SJK250SMTRLFS-C%26K-Components-datasheet-130077068.pdf?src-supplier=Allied+Electronics; ComponentLink9URL: http://datasheet.octopart.com/PTS815SJK250SMTRLFS-C%26K-Components-datasheet-130077068.pdf?src-supplier=Electro+Sonic; ComponentLink9Description: http://datasheet.octopart.com/PTS815SJK250SMTRLFS-C%26K-Components-datasheet-130077068.pdf?src-supplier=Electro+Sonic; ComponentLink10URL: http://datasheet.octopart.com/PTS815SJK250SMTRLFS-C%26K-Components-datasheet-130077068.pdf?src-supplier=NAC+Semi; ComponentLink10Description: http://datasheet.octopart.com/PTS815SJK250SMTRLFS-C%26K-Components-datasheet-130077068.pdf?src-supplier=NAC+Semi; ComponentLink11URL: http://datasheet.octopart.com/PTS815SJK250SMTRLFS-C%26K-Components-datasheet-130077068.pdf?src-supplier=LCSC; ComponentLink11Description: http://datasheet.octopart.com/PTS815SJK250SMTRLFS-C%26K-Components-datasheet-130077068.pdf?src-supplier=LCSC; ComponentLink12URL: http://datasheet.octopart.com/PTS815SJK250SMTRLFS-C%26K-Components-datasheet-130077068.pdf?src-supplier=TTI; ComponentLink12Description: http://datasheet.octopart.com/PTS815SJK250SMTRLFS-C%26K-Components-datasheet-130077068.pdf?src-supplier=TTI; ComponentLink13URL: http://datasheet.octopart.com/PTS815SJK250SMTRLFS-C%26K-Components-datasheet-130077068.pdf?src-supplier=Sager+Electronics; ComponentLink13Description: http://datasheet.octopart.com/PTS815SJK250SMTRLFS-C%26K-Components-datasheet-130077068.pdf?src-supplier=Sager+Electronics; ComponentLink14URL: https://datasheet.octopart.com/PTS815SJK250SMTRLFS-C%26K-Components-datasheet-166147782.pdf?src-supplier=TME; ComponentLink14Description: https://datasheet.octopart.com/PTS815SJK250SMTRLFS-C%26K-Components-datasheet-166147782.pdf?src-supplier=TME
footprint PTS815
pins: 1, 2, 3, 4

## Q40,0-JXS11-8-10/10-FU-LF
designator X?, comment 40MHz  Manufacturer Part Number: Q40,0-JXS11-8-10/10-FU-LF
Crystal 40.0000MHZ 8PF SMD; Manufacturer: Jauch; Supplier: Digikey; Supplier Part Number: 1908-Q400-JXS11-8-10/10-FU-LFCT-ND; RoHS: No; Stock: 7747; Pricing: 1=0.79, 10=0.68, 50=0.6134, 100=0.5867, 500=0.52924, 1000=0.40109, 2000=0.3838, 3000=0.37405, 5000=0.36214, 7000=0.35452, 10000=0.35375 (USD)
footprint 1612_CRYSTAL (Crystal 1.6 x 1.2 mm)
pins: 1 OSC, 2 GND (power), 3 OSC, 4 GND (power)

## RC0402FR-070RL
designator JP?  value 0Ω  Case/Package: 0402  (hidden comment: RC0402FR-070RL)
0 Ω, 0402 Chip resistor (jumper); Manufacturer: Yageo; house_part_number: R-0-0402-1%-001; Voltage Rating: 50V; Tolerance: 1%; Power Rating: 62.5mW; Temperature Coefficient: 200ppm/°C; Max Power Dissipation: 63mW; Supplier 1: Avnet; Supplier Part Number 1: RC0402FR-070RL; Manufacturer Part Number: RC0402FR-070RL; RoHS: Yes; Category: Chip SMD Resistors; Stock: 580000; Pricing: 10000=0.00093 (USD); Mounting Technology: Surface Mount; Contact Plating: Tin,Matte; Case Code (Imperial): 0402; Case Code (Metric): 1005; Min Operating Temperature: -55°C; Max Operating Temperature: 155°C; Packaging: Tape and Reel; Termination: SMD/SMT; Features: Moisture Resistant; Series: RC; Number of Terminations: 2; Length: 1mm; Width: 0.5mm; Height: 0.35mm; RoHS Compliant: Yes; Lead Free: 5697LeadFree
footprint 0402_resistor (Chip Resistor, 2-Leads, Body 1.00x0.50mm, IPC Medium Density)
pins: 1, 2

## RC0402FR-072K2L
designator R?  value 2.2kΩ  Case/Package: 0402  (hidden comment: RC0402FR-072K2L)
2.2 kΩ, 0402 Chip resistor; Manufacturer: Yageo; house_part_number: R-2.2k-0402-1%-001; Tolerance: 1%; Power Rating: 62.5mW; Voltage Rating: 50V; Temperature Coefficient: 100ppm/°C; Max Power Dissipation: 63mW; Supplier 1: Future Electronics; Supplier Part Number 1: 9737263; Manufacturer Part Number: RC0402FR-072K2L; RoHS: Yes; Category: Chip SMD Resistors; Stock: 4866; Pricing: 1=0.1, 20=0.0673, 150=0.0454, 1000=0.0247, 5000=0.0072 (USD); Case Code (Imperial): 0402; Case Code (Metric): 1005; Weight: 2.3E-05oz; Min Operating Temperature: -55°C; Max Operating Temperature: 155°C; Resistor Type: Thick Film; Packaging: Tape and Reel; Termination: SMD/SMT; Features: Moisture Resistant; Series: RC; Number of Terminations: 2; Resistance Tolerance: 1%; Construction: Rectangular; Technology: THICK FILM; Voltage Rating (AC): 50V; Length: 1mm; Width: 0.5mm; Height: 0.35mm; Depth: 0.5mm; RoHS Compliant: Yes; Reach SVHC Compliant: No; Military Standard: Not; Lead Free: Lead Free; ComponentLink1URL: https://datasheet.ciiva.com/11808/0900766b80c66297-11808786.pdf?src-supplier=Rs; ComponentLink1Description: https://datasheet.ciiva.com/11808/0900766b80c66297-11808786.pdf?src-supplier=Rs; ComponentLink2URL: https://datasheet.ciiva.com/7983/1018594-7983515.pdf?src-supplier=Element14; ComponentLink2Description: https://datasheet.ciiva.com/7983/1018594-7983515.pdf?src-supplier=Element14; ComponentLink3URL: https://datasheet.ciiva.com/12577/pyu-rc0402-51-rohs-l-6-r-12577429.pdf?src-supplier=Mouser; ComponentLink3Description: https://datasheet.ciiva.com/12577/pyu-rc0402-51-rohs-l-6-r-12577429.pdf?src-supplier=Mouser; ComponentLink4URL: https://datasheet.ciiva.com/46383/1018594-46383563.pdf?src-supplier=Element14; ComponentLink4Description: https://datasheet.ciiva.com/46383/1018594-46383563.pdf?src-supplier=Element14; ComponentLink5URL: https://datasheet.ciiva.com/7849/1018594-7849929.pdf?src-supplier=Element14; ComponentLink5Description: https://datasheet.ciiva.com/7849/1018594-7849929.pdf?src-supplier=Element14; ComponentLink6URL: https://datasheet.ciiva.com/7849/1018594-7849928.pdf?src-supplier=Element14; ComponentLink6Description: https://datasheet.ciiva.com/7849/1018594-7849928.pdf?src-supplier=Element14; ComponentLink7URL: https://datasheet.ciiva.com/16741/pyu-rc0402-51-rohs-l-6-r-16741015.pdf?src-supplier=Future+Electronics; ComponentLink7Description: https://datasheet.ciiva.com/16741/pyu-rc0402-51-rohs-l-6-r-16741015.pdf?src-supplier=Future+Electronics
footprint 0402_resistor (Chip Resistor, 2-Leads, Body 1.00x0.50mm, IPC Medium Density)
pins: 1, 2

## RC0402FR-072R7L
designator R?  value 2.7Ω  Case/Package: 0402  (hidden comment: RC0402FR-072R7L)
2.7 Ω, 0402 Chip resistor; Manufacturer: Yageo; Power Rating: 63mW; Tolerance: 1%; Voltage Rating: 50V; Temperature Coefficient: 200ppm/°C; Supplier 1: Digikey; Manufacturer Part Number: RC0402FR-072R7L; RoHS: Yes; Category: Chip SMD Resistors; Stock 1: 10000; Pricing 1: 10000=0.00384, 20000=0.00341, 30000=0.00318, 50000=0.00294, 100000=0.00266 (USD); Pins: 2; Case Code (Imperial): 0402; Case Code (Metric): 1005; Min Operating Temperature: -55°C; Max Operating Temperature: 155°C; Packaging: Tape and Reel; Resistor Type: Thick Film; Termination: SMD/SMT; Number of Terminations: 2; Max Power Dissipation: 63mW; Voltage Rating (DC): 50V; Features: Moisture Resistant; Series: RC; Resistance Tolerance: 1%; Length: 0.039inch; Width: 0.5mm; Height: 0.016inch; Reach SVHC Compliant: No; Lead Free: Lead Free; RoHS Compliant: Yes; ComponentLink1URL: https://datasheet.ciiva.com/7849/1018594-7849948.pdf?src-supplier=Element14; ComponentLink1Description: https://datasheet.ciiva.com/7849/1018594-7849948.pdf?src-supplier=Element14; ComponentLink2URL: https://datasheet.ciiva.com/7849/1018594-7849949.pdf?src-supplier=Element14; ComponentLink2Description: https://datasheet.ciiva.com/7849/1018594-7849949.pdf?src-supplier=Element14; Supplier Part Number 1: 13-RC0402FR-072R7LTR-ND
footprint 0402_resistor (Chip Resistor, 2-Leads, Body 1.00x0.50mm, IPC Medium Density)
pins: 1, 2

## RC0402FR-075K1L
designator R?  value 5.1kΩ  Case/Package: 0402  (hidden comment: RC0402FR-075K1L)
5.1 kΩ, 0402 Chip resistor; Manufacturer: Yageo; house_part_number: R-5.1k-0402-1%-001; Power Rating: 63mW; Tolerance: 1%; Temperature Coefficient: 100ppm/°C; Voltage Rating: 50V; Supplier 1: Future Electronics; Supplier Part Number 1: 6053649; Manufacturer Part Number: RC0402FR-075K1L; RoHS: Yes; Category: Chip SMD Resistors; Stock: 1190000; Pricing: 10000=0.0024, 50000=0.0023, 250000=0.0021, 500000=0.0021, 1500000=0.0019 (USD); Case Code (Metric): 1005; Case Code (Imperial): 0402; Min Operating Temperature: -55°C; Max Operating Temperature: 155°C; Technology: THICK FILM; Packaging: Tape and Reel; Package Quantity: 1; Resistor Type: Thick Film; Number of Terminations: 2; Termination: SMD/SMT; Max Power Dissipation: 63mW; Working Voltage: 50V; Features: Moisture Resistant; Series: RC; Resistance Tolerance: 1%; Construction: Rectangular; Voltage Rating (DC): 50V; Length: 1mm; Width: 0.02inch; Height: 0.016inch; Depth: 0.5mm; RoHS Compliant: Yes; Military Standard: Not; Reach SVHC Compliant: Unknown; Lead Free: 5697LeadFree; ComponentLink1URL: https://datasheet.ciiva.com/7983/1018594-7983519.pdf?src-supplier=Element14; ComponentLink1Description: https://datasheet.ciiva.com/7983/1018594-7983519.pdf?src-supplier=Element14; ComponentLink2URL: https://datasheet.ciiva.com/46394/1018594-46394936.pdf?src-supplier=Element14; ComponentLink2Description: https://datasheet.ciiva.com/46394/1018594-46394936.pdf?src-supplier=Element14; ComponentLink3URL: https://datasheet.ciiva.com/2453/pyu-r-int-thick-7-2453401.pdf?src-supplier=Digikey; ComponentLink3Description: https://datasheet.ciiva.com/2453/pyu-r-int-thick-7-2453401.pdf?src-supplier=Digikey; ComponentLink4URL: https://datasheet.ciiva.com/2453/pyu-r-int-thick-7-2453402.pdf?src-supplier=Digikey; ComponentLink4Description: https://datasheet.ciiva.com/2453/pyu-r-int-thick-7-2453402.pdf?src-supplier=Digikey; ComponentLink5URL: https://datasheet.ciiva.com/2453/pyu-r-int-thick-7-2453400.pdf?src-supplier=Digikey; ComponentLink5Description: https://datasheet.ciiva.com/2453/pyu-r-int-thick-7-2453400.pdf?src-supplier=Digikey; ComponentLink6URL: https://datasheet.ciiva.com/12558/pyu-rc0402-51-rohs-l-6-r-8721-12558460.pdf?src-supplier=Mouser; ComponentLink6Description: https://datasheet.ciiva.com/12558/pyu-rc0402-51-rohs-l-6-r-8721-12558460.pdf?src-supplier=Mouser; ComponentLink7URL: https://datasheet.ciiva.com/16744/pyu-rc0402-51-rohs-l-6-r-16744283.pdf?src-supplier=Future+Electronics; ComponentLink7Description: https://datasheet.ciiva.com/16744/pyu-rc0402-51-rohs-l-6-r-16744283.pdf?src-supplier=Future+Electronics; ComponentLink8URL: https://datasheet.ciiva.com/15189/getdatasheetpartid-323636-15189493.pdf?src-supplier=Verical; ComponentLink8Description: https://datasheet.ciiva.com/15189/getdatasheetpartid-323636-15189493.pdf?src-supplier=Verical
footprint 0402_resistor (Chip Resistor, 2-Leads, Body 1.00x0.50mm, IPC Medium Density)
pins: 1, 2

## RC0402FR-075K6L
designator R?  value 5.6kΩ  Case/Package: 0402  (hidden comment: RC0402FR-075K6L)
5.6 kΩ, 0402 Chip resistor; Manufacturer: Yageo; house_part_number: R-5.6k-0402-1%-001; Tolerance: 1%; Power Rating: 62.5mW; Voltage Rating: 50V; Temperature Coefficient: 100ppm/°C; Supplier 1: Digikey; Supplier Part Number 1: 311-5.6KLRCT-ND; Manufacturer Part Number: RC0402FR-075K6L; RoHS: Yes; Category: Chip SMD Resistors; Stock: 3535859; Pricing: 1=0.1, 10=0.015, 50=0.0088, 100=0.0073, 500=0.00488, 1000=0.00417, 5000=0.00297 (USD); Case Code (Imperial): 0402; Case Code (Metric): 1005; Min Operating Temperature: -55°C; Max Operating Temperature: 155°C; Packaging: Tape and Reel; Termination: SMD/SMT; Series: RC; Resistor Type: Thick Film; Construction: Rectangular; Resistance Tolerance: 1%; Voltage Rating (AC): 50V; Length: 1mm; Depth: 0.5mm; Military Standard: Not; RoHS Compliant: Yes; Reach SVHC Compliant: Unknown; Lead Free: Lead Free; ComponentLink1URL: https://datasheet.ciiva.com/12667/pyu-rc0402-51-rohs-l-6-r-12667035.pdf?src-supplier=Mouser; ComponentLink1Description: https://datasheet.ciiva.com/12667/pyu-rc0402-51-rohs-l-6-r-12667035.pdf?src-supplier=Mouser
footprint 0402_resistor (Chip Resistor, 2-Leads, Body 1.00x0.50mm, IPC Medium Density)
pins: 1, 2